# EAGLE library part 27C800 (library sj_ic)
27C800 8 Mbit (1024 Kbit x 8 or 512 Kbit x 16) EPROM
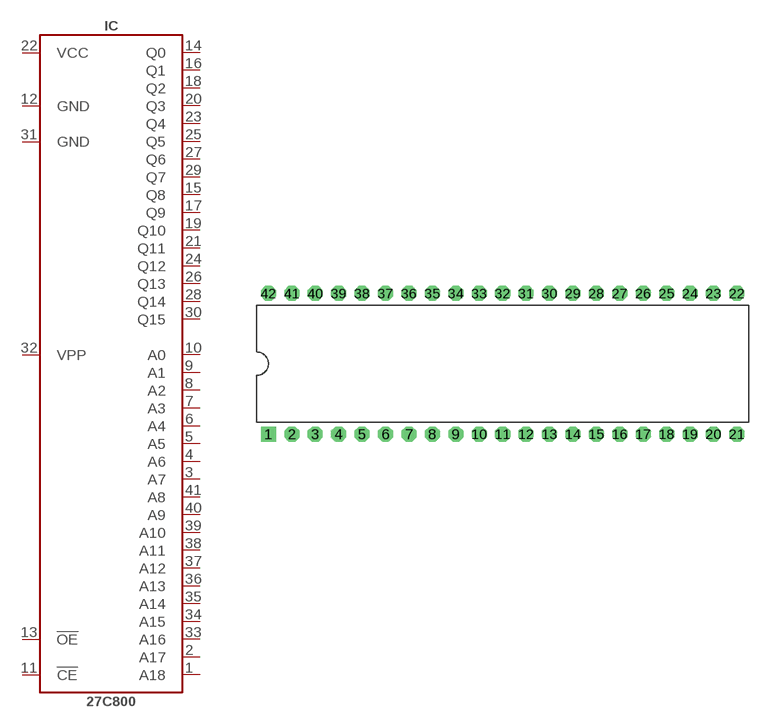
[diagram p8: symbol with the pads of DIP42; footprint DIP42]

Designator prefix IC

## 27C800_DIP  [DIP42]
1  A18
2  A17
3  A7
4  A6
5  A5
6  A4
7  A3
8  A2
9  A1
10  A0
11  !CE
12  GND  pwr
13  !OE
14  Q0
15  Q8
16  Q1
17  Q9
18  Q2
19  Q10
20  Q3
21  Q11
22  VCC  pwr
23  Q4
24  Q12
25  Q5
26  Q13
27  Q6
28  Q14
29  Q7
30  Q15
31  GND  pwr
32  VPP  pwr
33  A16
34  A15
35  A14
36  A13
37  A12
38  A11
39  A10
40  A9
41  A8

## Footprint DIP42 (pad centres in mm)
42pin Dual In Line Package Wide (0.6 inch)
drill 0.813 pad 1.626 square: 1 -25.4,-7.62
drill 0.813 pad 1.626 octagon: 2 -22.86,-7.62; 3 -20.32,-7.62; 4 -17.78,-7.62; 5 -15.24,-7.62; 6 -12.7,-7.62; 7 -10.16,-7.62; 8 -7.62,-7.62; 9 -5.08,-7.62; 10 -2.54,-7.62; 11 0,-7.62; 12 2.54,-7.62; 13 5.08,-7.62; 14 7.62,-7.62; 15 10.16,-7.62; 16 12.7,-7.62; 17 15.24,-7.62; 18 17.78,-7.62; 19 20.32,-7.62; 20 22.86,-7.62; 21 25.4,-7.62; 22 25.4,7.62; 23 22.86,7.62; 24 20.32,7.62; 25 17.78,7.62; 26 15.24,7.62; 27 12.7,7.62; 28 10.16,7.62; 29 7.62,7.62; 30 5.08,7.62; 31 2.54,7.62; 32 0,7.62; 33 -2.54,7.62; 34 -5.08,7.62; 35 -7.62,7.62; 36 -10.16,7.62; 37 -12.7,7.62; 38 -15.24,7.62; 39 -17.78,7.62; 40 -20.32,7.62; 41 -22.86,7.62; 42 -25.4,7.62